# EAGLE library part ALEX-PARTS_CD4051BE (library squareinator2)
The CD4051B is a single 8-Channel multiplexer having three binary control inputs.
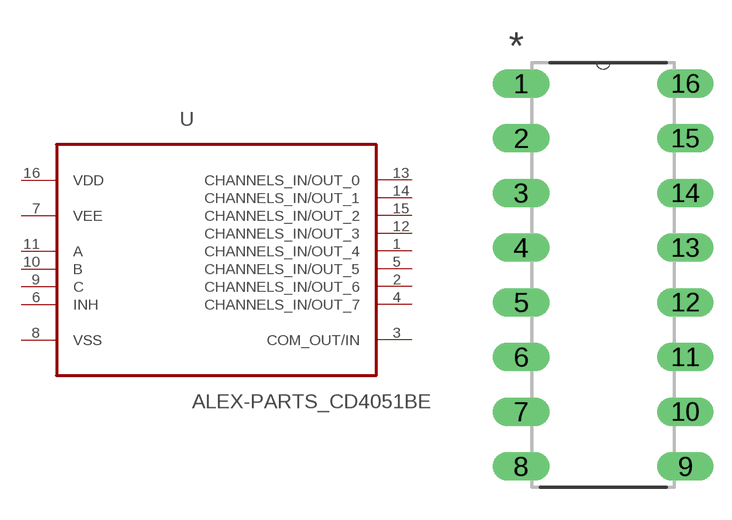
[diagram p0: symbol with the pads of ALEX-PARTS_DIP254P762X508-16; footprint ALEX-PARTS_DIP254P762X508-16]

Designator prefix U

## ALEX-PARTS_CD4051BE (MPN: CD4051BE; OC_FARNELL: 1106109; OC_NEWARK: 60K5119; PACKAGE: PDIP-16; SUPPLIER: Texas Instruments)  [ALEX-PARTS_DIP254P762X508-16]
1  CHANNELS_IN/OUT_4
2  CHANNELS_IN/OUT_6
3  COM_OUT/IN
4  CHANNELS_IN/OUT_7
5  CHANNELS_IN/OUT_5
6  INH  in
7  VEE  pwr
8  VSS  pwr
9  C  in
10  B  in
11  A  in
12  CHANNELS_IN/OUT_3
13  CHANNELS_IN/OUT_0
14  CHANNELS_IN/OUT_1
15  CHANNELS_IN/OUT_2
16  VDD  pwr

## Footprint ALEX-PARTS_DIP254P762X508-16 (pad centres in mm)
drill 0.813 long: 1 -7.62,17.78; 2 -7.62,15.24; 3 -7.62,12.7; 4 -7.62,10.16; 5 -7.62,7.62; 6 -7.62,5.08; 7 -7.62,2.54; 8 -7.62,0; 9 0,0; 10 0,2.54; 11 0,5.08; 12 0,7.62; 13 0,10.16; 14 0,12.7; 15 0,15.24; 16 0,17.78